# EAGLE library part 691412120017 (library Wurth_Terminal_Blocks_Connectors_rev15d)
WR-TBL Serie 412 - 3.5mm Screwless 45° Entry Grey - 1.5mm2 Wires, 17 Pins
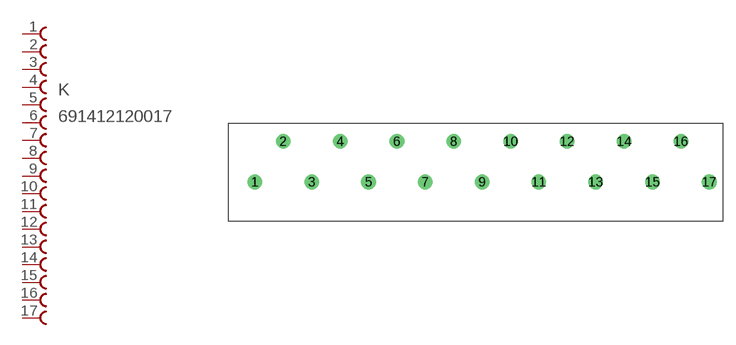
[diagram p224: symbol with the pads of 691412120017; footprint 691412120017]

Designator prefix K

## 691412120017  [691412120017]
1  1  pas
2  2  pas
3  3  pas
4  4  pas
5  5  pas
6  6  pas
7  7  pas
8  8  pas
9  9  pas
10  10  pas
11  11  pas
12  12  pas
13  13  pas
14  14  pas
15  15  pas
16  16  pas
17  17  pas

## Footprint 691412120017 (pad centres in mm)
WR-TBL Serie 412 - 3.5mm Screwless 45° Entry Grey - 1.5mm2 Wires, 17 Pins
drill 1.2: 1 -55.97,0; 2 -52.47,5; 3 -48.97,0; 4 -45.47,5; 5 -41.97,0; 6 -38.47,5; 7 -34.97,0; 8 -31.47,5; 9 -27.97,0; 10 -24.47,5; 11 -21,0; 12 -17.5,5; 13 -14,0; 14 -10.5,5; 15 -7,0; 16 -3.5,5; 17 0,0